# Altium schematic symbol library 860020672005.SchLib: 1 symbol
Pins are listed as number, name and electrical type; pins without a type are passive.

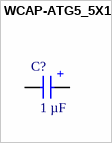
[diagram p0: symbol WCAP-ATG5_5X11]

## WCAP-ATG5_5X11
designator C?, comment 1 µF
MF: {'manufacturer': u'Wurth Electronics'}; MP: 860020672005; Package: None; Price: None; Value: 1 µF; Availability: Unavailable
footprint CAP_ALUM_5x11_RM2.0
pins: 1 POS, 2 NEG
text: +